# Altium schematic symbol library 74HCT4046-SMD16P.Schlib: 1 symbol
Pins are listed as number, name and electrical type; pins without a type are passive.

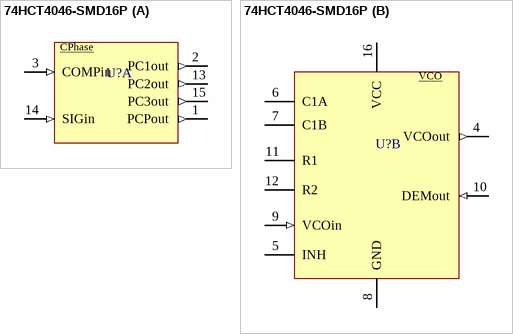
[diagram p0: symbol 74HCT4046-SMD16P]

## 74HCT4046-SMD16P
designator U?  (value not drawn)
part A pins: 1 PCPout (out), 2 PC1out (out), 3 COMPin (in), 13 PC2out (out), 14 SIGin (in), 15 PC3out (out)
part B pins: 4 VCOout (out), 5 INH, 6 C1A, 7 C1B, 8 GND (power), 9 VCOin (in), 10 DEMout (in), 11 R1, 12 R2, 16 VCC (power)
part A text: CPhase
part B text: VCO